# Altium footprint library PCB - JUMPER - CHIP - RES 0805_2012.PCBLIB: 1 footprints
Each footprint in its own frame and in the unit in brackets; x right, y up, seen from the top. Pads: shape width x height; smd on the part's side, far side on the other; paste and mask are expansions set on the pad; w line width, h text height; cw(c..) or ccw(c..) is an arc to the next point about the centre after c.
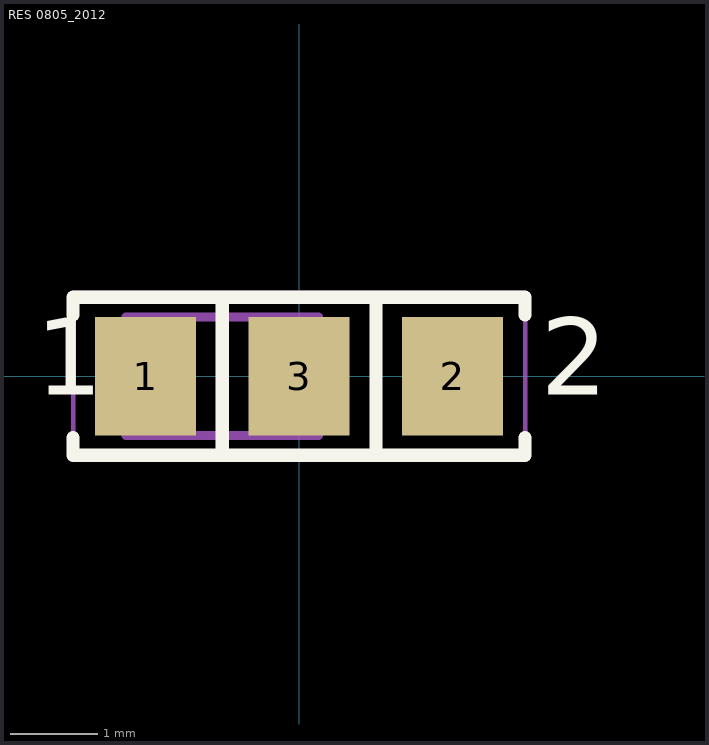
[diagram p0: the footprint, top view; thin cyan lines are the x and y axes]

## RES 0805_2012 [mm] "Chip Resistor, 2-Leads, Body 2.00x1.25mm, IPC Medium Density"
height 0.7
pads (3):
  rect 1.15x1.35 smd: 1(-1.75,0) 2(1.75,0) 3(0,0)
Top Overlay:
  lines w0.15: -2.575,-0.7 -2.575,-0.9 0,-0.9 2.575,-0.9 2.575,-0.7 ; -2.575,0.7 -2.575,0.9 0,0.9 2.575,0.9 2.575,0.7 ; -0.875,-0.9 -0.875,0.9 ; 0.875,-0.9 0.875,0.9
  text "1" at -3,-0.5 h1.5
  text "2" at 2.751,-0.5 h1.5
Mechanical 13:
  lines w0.1: -1.975,-0.675 -1.975,0.675 0.225,0.675 0.225,-0.675 -1.975,-0.675
Mechanical 15:
  lines w0.05: -2.575,-0.95 2.575,-0.95 2.575,0.95 -2.575,0.95 -2.575,-0.95
Mechanical 2 (Mech9):
  lines w0.1: -0.5,0 0.5,0 ; 0,-0.5 0,0.5
3D body "0805 resistor.STEP": height 0.6, standoff 0, extent -1.875,-0.625 0.125,0.625